# Altium footprint library L25.PcbLib: 12 footprints
Each footprint in its own frame and in the unit in brackets; x right, y up, seen from the top. Pads: shape width x height; smd on the part's side, far side on the other; paste and mask are expansions set on the pad; w line width, h text height; cw(c..) or ccw(c..) is an arc to the next point about the centre after c.
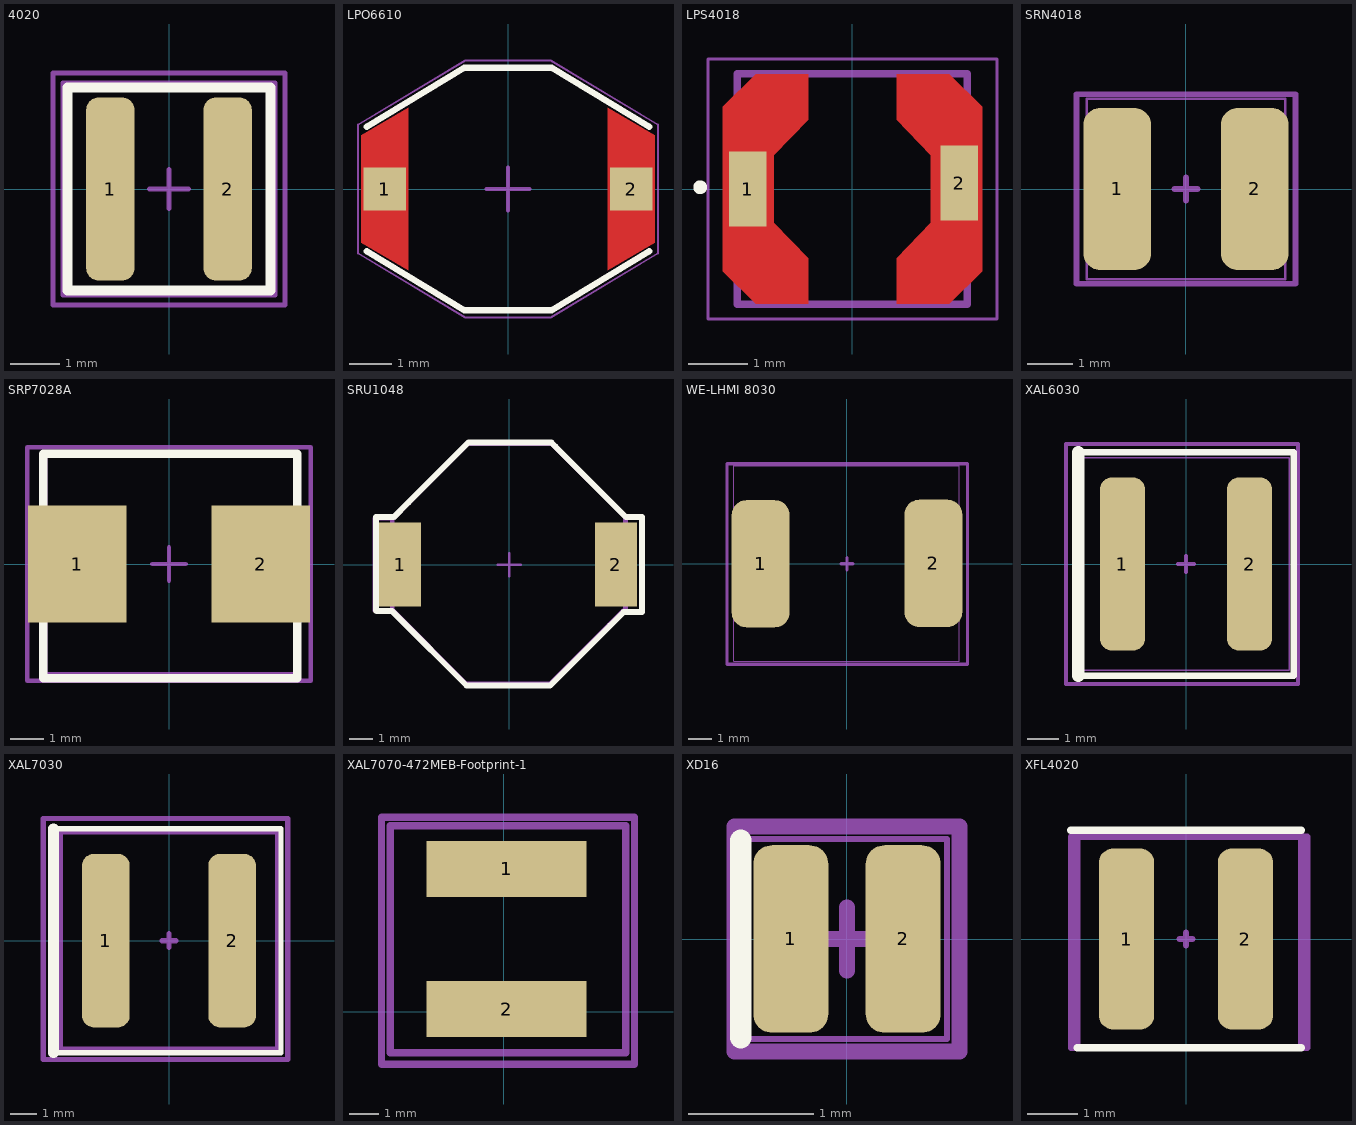
[diagram p0: the footprints below, top view; thin cyan lines are the x and y axes]

## 4020 [mm] "WE-MAPI 4020 Power Inductor 4x4x3mm"
height 3.1
pads (2):
  rrect50% 0.98x3.7 smd mask+0: 1(-1.185,0) 2(1.185,0)
Top Overlay:
  lines w0.2: -2.05,-2.05 2.05,-2.05 2.05,2.05 -2.05,2.05 -2.05,-2.05
Mechanical 11:
  lines w0.1: -2.05,-2.05 -2.05,2.05 2.05,2.05 2.05,-2.05 -2.05,-2.05
Mechanical 14:
  lines w0.1: -2.15,-2.15 -2.15,2.15 2.15,2.15 2.15,-2.15 -2.15,-2.15
Mechanical 15:
  lines w0.1: -0.4,0 0.4,0 ; 0,-0.4 0,0.4 ; -2.35,-2.35 -2.35,2.35 2.35,2.35 2.35,-2.35 -2.35,-2.35
Mechanical 17:
  text "'.Designator'" at -1.651,0 h0.3
3D body "IndMAPI_4030_74438357xxx.stp": height 3.12, standoff 0.02, extent -2.05,-2.05 2.05,2.05

## LPO6610 [mm]
pads (2):
  rect 1x1 smd: 1(-2.875,0) 2(2.875,0)
Top Layer:
  region: -3.425,1.25 -2.325,1.9 -2.325,-1.9 -3.425,-1.25
  region: 3.425,-1.25 2.325,-1.9 2.325,1.9 3.425,1.25
Top Overlay:
  lines w0.15: -3.3,-1.45 -1.025,-2.825 1.025,-2.825 3.3,-1.45 ; -3.3,1.45 -1.025,2.825 1.025,2.825 3.3,1.45
Mechanical 13:
  lines w0.05: -3.5,-1.5 -1,-3 0,-3 1,-3 3.5,-1.5 3.5,0 3.5,1.5 1,3 0,3 -1,3 -3.5,1.5 -3.5,0 -3.5,-1.5
Mechanical 15:
  lines w0.05: -3.5,-1.5 -3.5,0 -3.5,1.5 -1,3 0,3 1,3 3.5,1.5 3.5,0 3.5,-1.5 1,-3 0,-3 -1,-3 -3.5,-1.5
  lines w0.1: -0.5,0 0.5,0 ; 0,-0.5 0,0.5
Mechanical 17:
  text "'.Designator'" at -3.5,-0.25 h0.6
3D body "Coilcraft-LPO6610.step": height 1, standoff 0, extent -3.3,-2.75 3.3,2.75

## LPS4018 [mm]
pads (2):
  rect 0.635x1.27 smd: 1(-1.77,0) 2(1.81,0.1)
Top Layer:
  region: -1.64,-1.945 -0.75,-1.945 -0.75,-1.17 -1.33,-0.575 -1.33,0.575 -0.75,1.17 -0.75,1.945 -1.64,1.945 -2.2,1.395 -2.2,-1.395
  region: 1.64,1.945 0.75,1.945 0.75,1.17 1.33,0.575 1.33,-0.575 0.75,-1.17 0.75,-1.945 1.64,-1.945 2.2,-1.395 2.2,1.395
Top Overlay:
  circle w0.127: c-2.58,0.03 r0.054
Top Paste:
  region: -1.64,-1.945 -0.75,-1.945 -0.75,-1.17 -1.33,-0.575 -1.33,0.575 -0.75,1.17 -0.75,1.945 -1.64,1.945 -2.2,1.395 -2.2,-1.395
  region: 1.64,1.945 0.75,1.945 0.75,1.17 1.33,0.575 1.33,-0.575 0.75,-1.17 0.75,-1.945 1.64,-1.945 2.2,-1.395 2.2,1.395
Top Solder:
  region: -1.72,2.09 -0.65,2.09 -0.65,1.16 -1.22,0.53 -1.22,-0.53 -0.65,-1.15 -0.65,-2.09 -1.72,-2.09 -2.34,-1.47 -2.34,1.47
  region: 1.72,-2.09 0.65,-2.09 0.65,-1.1 1.22,-0.53 1.22,0.53 0.65,1.12 0.65,2.09 1.72,2.09 2.34,1.47 2.34,-1.47
Mechanical 2:
  lines w0.127: -1.95,-1.95 -1.95,1.95 1.95,1.95 1.95,-1.95 -1.95,-1.95
Mechanical 5:
  lines w0.05: -2.45,-2.2 -2.45,2.2 2.45,2.2 2.45,-2.2 -2.45,-2.2
3D body "Coilcraft-LPS4018.step": height 1.8, standoff 0, extent -1.99,-1.99 1.99,1.99

## SRN4018 [mm]
pads (2):
  rrect50% 1.5x3.6 smd mask+0.07: 1(-1.525,0) 2(1.525,0)
Mechanical 13:
  lines w0.051: -2.2,-2 -2.2,2 2.2,2 2.2,-2 -2.2,-2
Mechanical 15:
  lines w0.127: -0.254,0 0.254,0 ; 0,-0.254 0,0.254 ; -2.425,-2.1 -2.425,2.1 2.425,2.1 2.425,-2.1 -2.425,-2.1
Mechanical 17:
  text "'.Designator'" at -0.975,-0.075 h0.2
3D body "srn4018.stp": height 1.8, standoff 0, extent -2.2,-2 2.2,2

## SRP7028A [mm] "Power Inductor"
pads (2):
  rect 2.95x3.5 smd: 1(-2.75,0) 2(2.75,0)
Top Overlay:
  lines w0.254: -3.766,-3.429 3.854,-3.429 3.854,-0.296 3.854,3.302 -3.766,3.302 -3.766,0.384 -3.766,-3.429
Mechanical 13:
  lines w0.127: -3.706,-3.3 -3.706,3.3 3.794,3.3 3.794,-3.3 -3.706,-3.3
Mechanical 15:
  lines w0.127: -0.5,0 0.5,0 ; 0,-0.5 0,0.5 ; -4.25,-3.5 -4.25,3.5 4.25,3.5 4.25,-3.5 -4.25,-3.5
Mechanical 17:
  text "'.Designator'" at -3.937,-3.048 h0.51
Mechanical 19:
  text "'.Comment'" at -3.937,-3.048 h0.51
3D body "srp7028A.stp": height 2.9, standoff 0, extent -3.706,-3.3 3.794,3.3

## SRU1048 [mm] "Chip Inductor, 2-Leads, Body 10.80x3.60mm, IPC Medium Density"
height 4.8
pads (2):
  rect 1.8x3.6 smd: 1(-4.68,0) 2(4.572,0)
Top Overlay:
  lines w0.254: -5.715,-1.956 -5.69,-1.981 -5.131,-1.981 -5.029,-1.981 -4.813,-2.197 -1.829,-5.182 1.753,-5.182 4.318,-2.616 4.902,-2.032 5.105,-2.032 5.41,-2.032 5.69,-2.032 5.69,2.032 5.004,2.032 1.981,5.055 1.803,5.232 -1.753,5.232 -4.318,2.667 -4.953,2.032 -5.715,2.032 -5.715,-1.778 -5.715,-1.956
Mechanical 13:
  lines w0.2: -5.019,-1.941 -5.019,-1.724 -5.019,1.876 -5.019,1.966 -1.803,5.182 1.854,5.182 4.978,2.057 4.978,-1.905 1.778,-5.105 -1.854,-5.105 -5.019,-1.941
Mechanical 15:
  lines w0.1: -0.5,0 0.5,0 ; 0,-0.5 0,0.5
  lines w0.2: -5.766,-1.981 -5.766,-1.651 -5.766,1.981 -4.978,1.981 -1.778,5.182 1.676,5.182 1.829,5.182 5.004,2.007 5.664,2.007 5.664,-2.007 4.851,-2.007 1.702,-5.156 -1.676,-5.156 -1.854,-5.156 -5.029,-1.981 -5.766,-1.981
Mechanical 17:
  text "'.Designator'" at -3.175,-0.127 h0.64
Mechanical 19:
  text "'.Comment'" at -2.286,-0.127 h0.64
3D body "70277190.stp": height 5.1, standoff 0.3, extent -5,-5 5,5
3D body: height 4.8, standoff 0, extent 3.672,-1.8 5.472,1.8
3D body: height 4.8, standoff 0, extent -5.599,-1.778 -3.799,1.822

## WE-LHMI 8030 [mm] "WE-LHMI Wurth Power Inductor"
pads (2):
  rrect50% 2.42x5.33 smd: 1(-3.62,-0.01) 2(3.62,0.01)
Mechanical 2:
  lines w0.051: -4.745,-4.1 -4.745,4.1 4.705,4.1 4.705,-4.1 -4.745,-4.1
Mechanical 4:
  lines w0.127: -0.254,-0.01 0.254,-0.01 ; 0,-0.264 0,0.244 ; -5.02,-4.22 -5.02,4.18 5.04,4.18 5.04,-4.22 -5.02,-4.22
3D body "STEP-WE-LHMI-8030-rev1.stp": height 2.95, standoff -0.05, extent -4.745,-4.1 4.705,4.1

## XAL6030 [mm]
pads (2):
  rrect50% 1.43x5.5 smd mask+0.07: 1(-2.02,0) 2(2.02,0)
Top Overlay:
  lines w0.2: -3.429,-3.556 3.429,-3.556 3.429,3.556 -3.429,3.556
  lines w0.4: -3.429,-3.556 -3.429,3.556
Mechanical 13:
  lines w0.051: -3.302,-3.38 -3.302,3.38 3.28,3.38 3.28,-3.38 -3.302,-3.38
Mechanical 15:
  lines w0.127: -0.254,0 0.254,0 ; 0,-0.254 0,0.254 ; -3.81,-3.81 -3.81,3.81 3.556,3.81 3.556,-3.81 -3.81,-3.81
Mechanical 17:
  text "'.Designator'" at -2.413,-0.127 h0.4
3D body "Coilcraft-XAL6030.step": height 3, standoff -0.1, extent -3.28,-3.38 3.28,3.38

## XAL7030 [mm] "Shielded Power Inductor XAL7030"
pads (2):
  rrect50% 1.78x6.5 smd mask+0.07: 1(-2.36,0) 2(2.36,0)
Top Overlay:
  lines w0.2: -4.318,-4.191 4.191,-4.191 4.191,4.191 -4.318,4.191
  lines w0.4: -4.318,-4.191 -4.318,4.191
Mechanical 2:
  lines w0.2: -0.254,0 0.254,0 ; 0,-0.254 0,0.254 ; -4.064,-4.064 4.064,-4.064 4.064,4.064 -4.064,4.064 -4.064,-4.064
Mechanical 6:
  lines w0.2: -4.699,-4.445 -4.699,4.572 4.445,4.572 4.445,-4.445 -4.699,-4.445
3D body "Coilcraft-XAL7030-332.step": height 3, standoff -0.1, extent -4,-4 4,4

## XAL7070-472MEB-Footprint-1 [mm]
pads (2):
  rect 5.5x1.92 smd mask+0.102: 1(0.1,4.92)
  rect 5.5x1.92 smd mask+0.07: 2(0.1,0.1)
Mechanical 2:
  lines w0.254: -3.9,-1.4 4.2,-1.4 4.2,6.4 -3.9,6.4 -3.9,-1.4
Mechanical 4:
  lines w0.254: -4.2,-1.8 -4.2,6.7 4.5,6.7 4.5,-1.8 -4.2,-1.8
3D body "Coilcraft-XAL7070.STEP": height 6.6, standoff -0.4, extent -3.873,-1.35 4.127,6.35

## XD16 [mm]
height 1.4
pads (2):
  rrect50% 0.6x1.5 smd paste-0.15 mask+0: 1(-0.45,0) 2(0.45,0)
Top Overlay:
  lines w0.175: -0.85,-0.787 -0.85,0.788
Mechanical 2:
  lines w0.051: -0.8,-0.8 -0.8,0.8 0.8,0.8 0.8,-0.8 -0.8,-0.8
Mechanical 4:
  lines w0.127: -0.254,0 0.254,0 ; 0,-0.254 0,0.254 ; -0.9,-0.9 -0.9,0.9 0.9,0.9 0.9,-0.9 -0.9,-0.9
3D body "XD16 3D.stp": height 0.7, standoff 0, extent -0.8,-0.8 0.8,0.8

## XFL4020 [mm]
pads (2):
  rrect50% 1.1x3.6 smd: 1(-1.181,0) 2(1.181,0)
Top Overlay:
  lines w0.152: -2.286,2.159 2.286,2.159 ; -2.159,-2.159 2.286,-2.159
Mechanical 13:
  lines w0.127: -2.159,-2.159 2.286,-2.159 2.286,2.159 -2.159,2.159 -2.159,-2.159
Mechanical 15:
  lines w0.127: -0.127,0 0.127,0 ; 0,-0.127 0,0.127 ; -2.286,-2.159 2.413,-2.159 2.413,2.032 -2.286,2.032 -2.286,-2.159
Mechanical 17:
  text "'.Designator'" at -2.032,-0.254 h0.38
3D body "User Library-XFL4020.STEP": height 2.12, standoff 0.02, extent -2.143,-2.163 2.157,2.137